# Altium integrated library LM2596ADJ.IntLib: 1 symbol
Pins are listed as number, name and electrical type; pins without a type are passive.

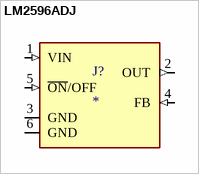
[diagram p0: symbol LM2596ADJ]

## LM2596ADJ
designator J?
Convertidor de potencia SIMPLE SWITCHER; MF: Texas Instruments; MP: LM2596-ADJ; SnapEDA_Link: https://www.snapeda.com/parts/LM2596-ADJ/Texas+Instruments/view-part/?ref=snap; Package: None; Value: *; Check_prices: https://www.snapeda.com/parts/LM2596-ADJ/Texas+Instruments/view-part/?ref=eda
footprint LM2596ADJ
pins: 1 VIN (in), 2 OUT (out), 3 GND (power), 4 FB (in), 5 ~{ON}/OFF (in), 6 GND (power)